# Altium footprint library Node Schematic Library.PcbLib: 16 footprints
Each footprint in its own frame and in the unit in brackets; x right, y up, seen from the top. Pads: shape width x height; smd on the part's side, far side on the other; paste and mask are expansions set on the pad; w line width, h text height; cw(c..) or ccw(c..) is an arc to the next point about the centre after c.
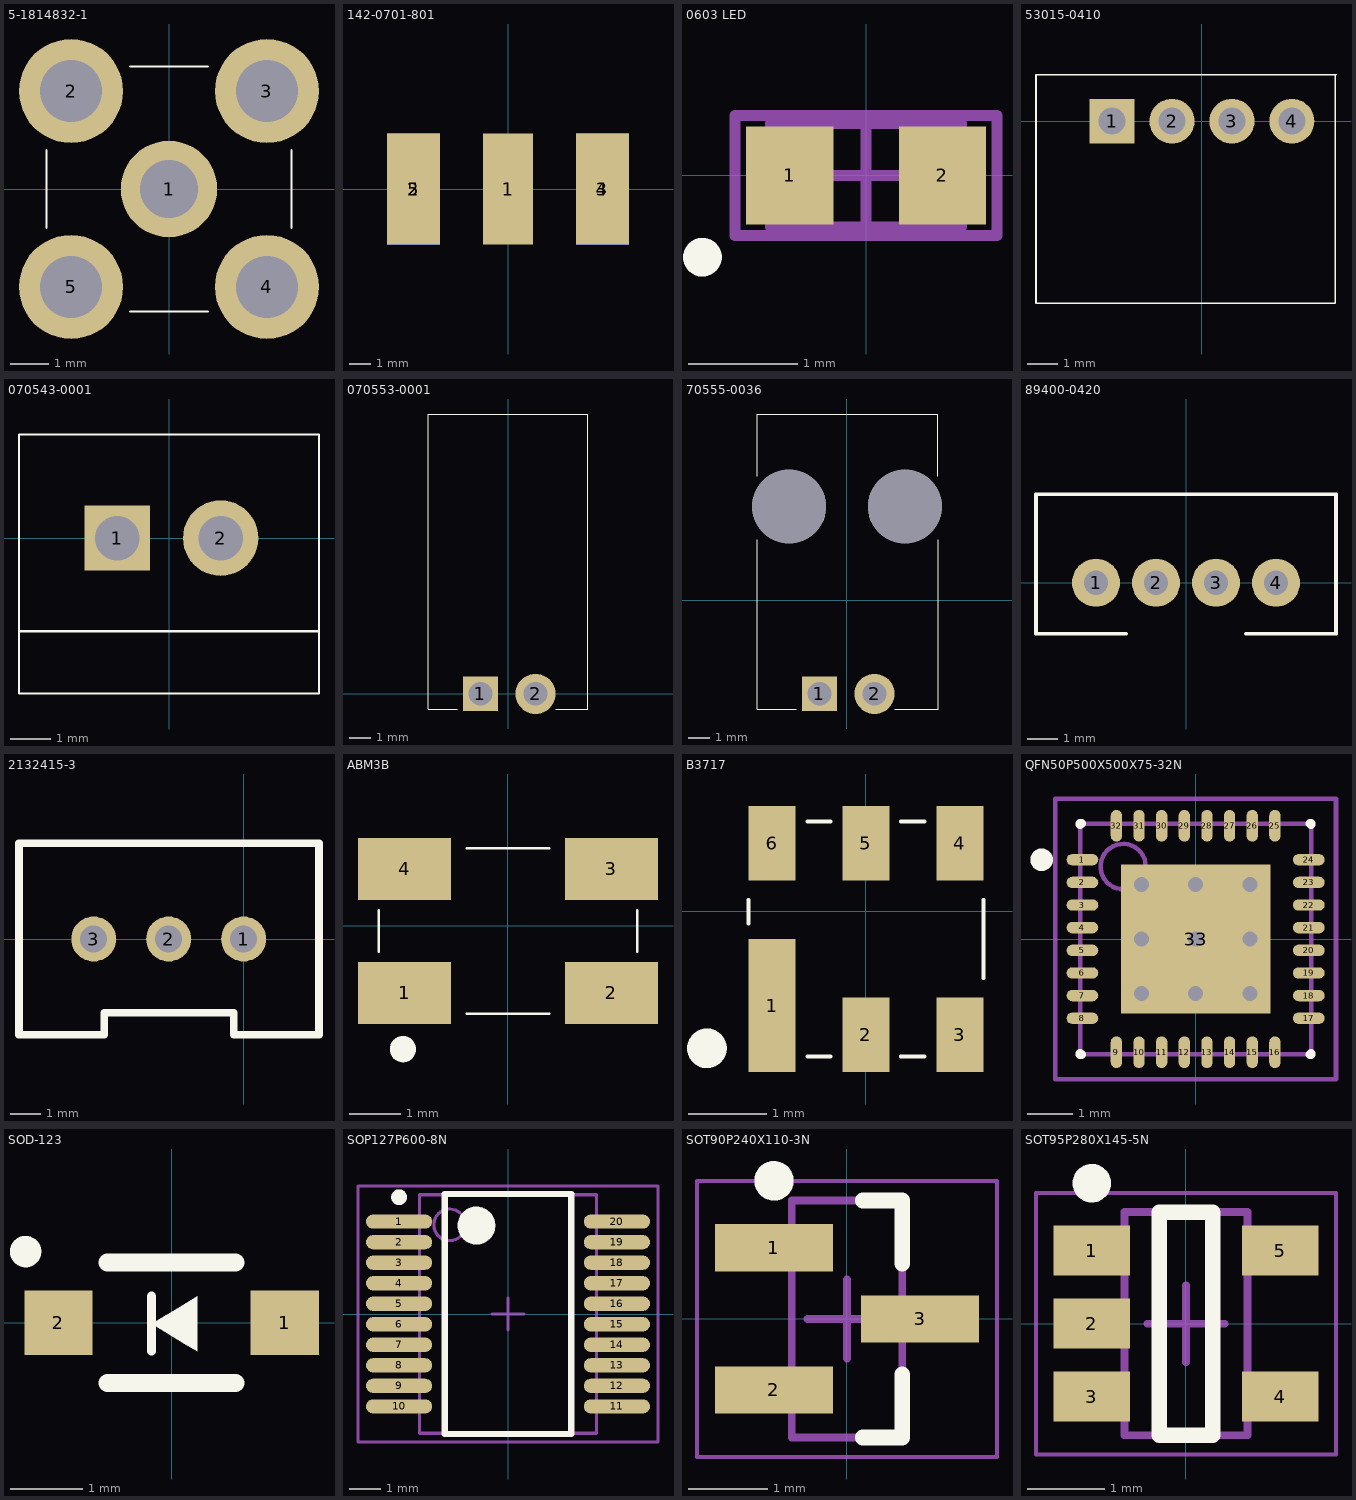
[diagram p0: the footprints below, top view; thin cyan lines are the x and y axes]

## 5-1814832-1 [mm] "SMA Jack, 50 ohm"
pads (5):
  round 2.5 hole 1.5 unplated: 1(0,0)
  round 2.7 hole 1.6 unplated: 2(-2.54,2.54) 3(2.54,2.54) 4(2.54,-2.54) 5(-2.54,-2.54)
Top Overlay:
  lines w0.051: -3.175,-1.016 -3.175,1.016 ; -1.016,-3.175 1.016,-3.175 ; -1.016,3.175 1.016,3.175 ; 3.175,-1.016 3.175,1.016
3D body: height 9.5, standoff -4, extent -3.2,-3.2 3.2,3.2

## 142-0701-801 [mil] "SMA Jack, 50 ohm, End Launch"
height 312
pads (5):
  rect 90x200 smd: 1(0,0)
  rect 95x200 smd: 2(-170,0) 3(170,0)
  rect 95x200 smd far side: 4(170,0) 5(-170,0)
3D body: height 202.5, standoff -172.5, extent -184.5,-87.5 190.5,600

## 0603 LED [mm] "LED, Body 1.6x0.8mm, IPC High Density"
height 1.3
pads (2):
  rect 0.8x0.9 smd: 1(-0.7,0) 2(0.7,0)
Top Overlay:
  circle w0.254: c-1.5,-0.75 r0.05
Mechanical 13:
  lines w0.1: -0.875,-0.475 0.875,-0.475 0.875,0.475 -0.875,0.475 -0.875,-0.475
Mechanical 15:
  lines w0.1: -0.475,0 0.475,0 ; 0,-0.475 0,0.475 ; -1.2,-0.55 1.2,-0.55 1.2,0.55 -1.2,0.55 -1.2,-0.55
3D body: height 1.3, standoff 0, extent -0.875,-0.475 0.875,0.475

## 53015-0410 [mm] "2mm RA Header"
height 4.65
pads (4):
  rect 1.5x1.5 hole 0.9: 1(-3,0)
  round 1.5 hole 0.9: 2(-1,0) 3(1,0) 4(3,0)
Top Overlay:
  lines w0.051: -5.537,-6.071 -5.537,1.549 4.47,1.549 4.445,1.524 4.445,-6.071 -5.537,-6.071
3D body: height 4.72, standoff -3.42, extent -5.533,-6.06 4.467,1.54

## 070543-0001 [mil] "Shrouded 2 Pin Header, Horizontal, 0.100"
height 450
pads (2):
  rect 63x63 hole 43: 1(-50,0)
  round 73 hole 43: 2(50,0)
Top Overlay:
  lines w2: -145,-90 145,-90 ; -145,-150 145,-150 144.99,100 -145.01,100 -145.01,-149.99
3D body: height 465, standoff -130, extent -145,-150 144.99,100

## 070553-0001 [mil] "Shrouded 2 Pin Header, RA, 0.100"
height 275
pads (2):
  rect 63x63 hole 43: 1(-50,0)
  round 73 hole 43: 2(50,0)
Top Overlay:
  lines w2: -92.01,-27.5 -145.01,-27.5 -145.01,508 144.99,508 144.99,-28 87,-28
3D body: height 273, standoff -132, extent -144,-27.5 146,507.5

## 70555-0036 [mil] "Shrouded 2 Pin Header, RA, 0.100"
height 275
pads (4):
  rect 63x63 hole 43: 1(-50,-170)
  round 73 hole 43: 2(50,-170)
  round 134 hole 134: ""(-105,170) ""(105,170)
Top Overlay:
  lines w2: -163,110 -163,-197.5 -92.01,-197.5 ; -163,225 -163,338 165,338 165,225 ; 87,-198 166,-198 166,109.5
3D body: height 273, standoff -132, extent -164,-197 166,338

## 89400-0420 [mm] "4 Position, 2.0 mm Vertical Header"
height 6.05
pads (4):
  round 1.6 hole 0.8: 1(-3,0) 2(-1,0) 3(1,0) 4(3,0)
Top Overlay:
  lines w0.127: -2,-1.7 -5,-1.7 -5,2.95 5,2.95 5,-1.7 2,-1.7
3D body: height 6.02, standoff -3.43, extent -4.974,-1.715 5.026,2.935

## 2132415-3 [mm] "3 Position Vertical Header, 2.5mm"
height 8.8
pads (3):
  round 1.5 hole 0.9: 1(0,0) 2(-2.5,0) 3(-5,0)
Top Overlay:
  lines w0.254: -7.493,-3.2 -4.648,-3.2 -4.648,-2.464 -0.33,-2.464 -0.33,-3.2 2.515,-3.2 2.515,3.2 -7.493,3.2 -7.493,-3.2
3D body: height 8.8, standoff -3.4, extent -7.5,-3.2 2.5,3.2

## ABM3B [mm] "5.0 x 3.2 mm SMT"
height 1.1
pads (4):
  rect 1.8x1.2 smd: 1(-2,-1.302) 2(2,-1.302) 3(2,1.098) 4(-2,1.098)
Top Overlay:
  circle w0.254: c-2.032,-2.388 r0.127
  lines w0.051: -2.5,-0.502 -2.5,0.298 ; -0.8,-1.702 0.8,-1.702 ; -0.8,1.498 0.8,1.498 ; 2.5,-0.502 2.5,0.298
3D body: height 1.1, standoff 0, extent -2.5,-1.702 2.5,1.498

## B3717 [mm] "3.0 x 3.0 x 1.1 mm SMT"
height 1.1
pads (6):
  rect 0.6x1.7 smd: 1(-1.2,-1.206)
  rect 0.6x0.95 smd: 2(0,-1.581) 3(1.2,-1.581) 4(1.2,0.869) 5(0,0.869) 6(-1.2,0.869)
Top Overlay:
  circle w0.254: c-2.032,-1.753 r0.127
  lines w0.051: -1.5,-0.156 -1.5,0.144 ; -0.75,-1.856 -0.45,-1.856 ; -0.75,1.144 -0.45,1.144 ; 0.45,-1.856 0.75,-1.856 ; 0.45,1.144 0.75,1.144 ; 1.5,-0.856 1.5,0.144
3D body: height 1.1, standoff 0, extent -1.5,-1.856 1.5,1.144

## QFN50P500X500X75-32N [mm] "QFN, 32-Leads, Body 5.1x5.1mm (max), Pitch 0.50mm, IPC Medium Density"
height 0.75
pads (33):
  oval 0.7x0.25 smd: 1(-2.5,1.75) 2(-2.5,1.25) 3(-2.5,0.75) 4(-2.5,0.25) 5(-2.5,-0.25) 6(-2.5,-0.75) 7(-2.5,-1.25) 8(-2.5,-1.75) 17(2.5,-1.75) 18(2.5,-1.25) 19(2.5,-0.75) 20(2.5,-0.25) 21(2.5,0.25) 22(2.5,0.75) 23(2.5,1.25) 24(2.5,1.75)
  oval 0.25x0.7 smd: 9(-1.75,-2.5) 10(-1.25,-2.5) 11(-0.75,-2.5) 12(-0.25,-2.5) 13(0.25,-2.5) 14(0.75,-2.5) 15(1.25,-2.5) 16(1.75,-2.5) 25(1.75,2.5) 26(1.25,2.5) 27(0.75,2.5) 28(0.25,2.5) 29(-0.25,2.5) 30(-0.75,2.5) 31(-1.25,2.5) 32(-1.75,2.5)
  rect 3.3x3.3 smd: 33(0,0)
via -1.2,1.2 diameter 0.66 hole 0.33
via 0,1.2 diameter 0.66 hole 0.33
via 1.2,1.2 diameter 0.66 hole 0.33
via -1.2,0 diameter 0.66 hole 0.33
via 0,0 diameter 0.66 hole 0.33
via 1.2,0 diameter 0.66 hole 0.33
via -1.2,-1.2 diameter 0.66 hole 0.33
via 0,-1.2 diameter 0.66 hole 0.33
via 1.2,-1.2 diameter 0.66 hole 0.33
Top Overlay:
  circle w0.25: c-3.4,1.75 r0.125
  lines w0.2: -2.55,-2.525 -2.55,-2.55 -2.525,-2.55 ; -2.55,2.525 -2.55,2.55 -2.525,2.55 ; 2.525,-2.55 2.55,-2.55 2.55,-2.525 ; 2.525,2.55 2.55,2.55 2.55,2.525
Mechanical 13:
  circle w0.1: c-1.6,1.6 r0.5
  lines w0.1: -2.55,-2.55 -2.55,2.55 2.55,2.55 2.55,-2.55 -2.55,-2.55
Mechanical 15:
  lines w0.1: -0.5,0 0.5,0 ; 0,-0.5 0,0.5 ; -3.1,-3.1 -3.1,3.1 3.1,3.1 3.1,-3.1 -3.1,-3.1
3D body: height 0.75, standoff 0.05, extent -2.55,-2.55 2.55,2.55

## SOD-123 [mm] "Generic Diode"
pads (2):
  rect 0.95x0.9 smd: 1(1.575,0) 2(-1.575,0)
Top Overlay:
  circle w0.254: c-2.032,0.991 r0.092
  region: 0.356,-0.394 0.356,0.368 0.152,0.241 -0.279,-0.013 0.178,-0.292
  lines w0.127: -0.279,-0.394 -0.279,0.368
  lines w0.254: -0.889,-0.838 0.889,-0.838 ; -0.889,0.838 0.889,0.838
3D body: height 0.92, standoff -0.53, extent -1.874,-0.838 1.976,0.862

## SOP127P600-8N [mm]
height 2
pads (20):
  oval 2.1x0.45 smd: 1(-3.45,2.925) 2(-3.45,2.275) 3(-3.45,1.625) 4(-3.45,0.975) 5(-3.45,0.325) 6(-3.45,-0.325) 7(-3.45,-0.975) 8(-3.45,-1.625) 9(-3.45,-2.275) 10(-3.45,-2.925) 11(3.45,-2.925) 12(3.45,-2.275) 13(3.45,-1.625) 14(3.45,-0.975) 15(3.45,-0.325) 16(3.45,0.325) 17(3.45,0.975) 18(3.45,1.625) 19(3.45,2.275) 20(3.45,2.925)
Top Overlay:
  circle w0.25: c-3.45,3.7 r0.125
  circle w0.6: c-1,2.8 r0.3
  lines w0.2: -2,-3.8 -2,3.8 2,3.8 2,-3.8 -2,-3.8
Mechanical 13:
  circle w0.1: c-1.85,2.825 r0.5
  lines w0.1: -2.8,-3.775 -2.8,3.775 2.8,3.775 2.8,-3.775 -2.8,-3.775
Mechanical 15:
  lines w0.1: -0.5,0 0.5,0 ; 0,-0.5 0,0.5 ; -4.75,-4.05 -4.75,4.05 4.75,4.05 4.75,-4.05 -4.75,-4.05
3D body: height 2, standoff 0.05, extent -2.8,-3.775 2.8,3.775

## SOT90P240X110-3N [mm] "SOT23, 3-Leads, Body 2.90x2.40mm, Pitch 0.90mm, IPC Medium Density"
height 1.1
pads (3):
  rect 1.5x0.6 smd: 1(-0.925,0.9) 2(-0.925,-0.9) 3(0.925,0)
Top Overlay:
  circle w0.25: c-0.925,1.75 r0.125
  lines w0.2: 0.2,-1.5 0.7,-1.5 0.7,-0.7 ; 0.2,1.5 0.7,1.5 0.7,0.7
Mechanical 13:
  lines w0.1: -0.7,-1.5 -0.7,1.5 0.7,1.5 0.7,-1.5 -0.7,-1.5
Mechanical 15:
  lines w0.05: -1.9,-1.75 -1.9,1.75 1.9,1.75 1.9,-1.75 -1.9,-1.75
  lines w0.1: -0.5,0 0.5,0 ; 0,-0.5 0,0.5
3D body: height 1.1, standoff 0.01, extent -0.7,-1.5 0.7,1.5

## SOT95P280X145-5N [mm] "SOT23, 5-Leads, Body 2.90x2.80mm, Pitch 0.95mm, IPC Medium Density"
height 1.45
pads (5):
  rect 1x0.65 smd: 1(-1.225,0.95) 2(-1.225,0) 3(-1.225,-0.95) 4(1.225,-0.95) 5(1.225,0.95)
Top Overlay:
  circle w0.25: c-1.225,1.825 r0.125
  lines w0.2: -0.35,-1.45 -0.35,1.45 0.35,1.45 0.35,-1.45 -0.35,-1.45
Mechanical 13:
  lines w0.1: -0.8,-1.45 0.8,-1.45 0.8,1.45 -0.8,1.45 -0.8,-1.45
Mechanical 15:
  lines w0.05: -1.95,-1.7 1.95,-1.7 1.95,1.7 -1.95,1.7 -1.95,-1.7
  lines w0.1: -0.5,0 0.5,0 ; 0,-0.5 0,0.5
3D body: height 1.45, standoff 0.15, extent -0.8,-1.45 0.8,1.45